# EAGLE library part WE-DS_214612043 (library Wurth_Elektronik_EMC_COMPONENTS_rev16c)
WE-DS D-SUB-Filter Connectors Bent 90° Characteristics Standard type filtered with 1000 pF High attenuation of more than 40 dB @ 180 MHz Choice of earthing metal sheet or high speed earthing clip Rated voltage: 100 VDC Rated current @ 20 ºC: 5 A Withstand voltage: 250 VRMS Insulation resistance: min. 1000 MΩ Operating temperature: –55 ºC to +125 ºC Applications Filtering of interfaces External connection to -printer -sensor -display <http://katalog.we-online.de/media/thumbs2/eisos/thb_AbsDSubFilter_abgewinkelt_pf2.jpg> Details see: http://katalog.we-online.de/en/pbs/Filter_abgewinkelt Created on 2015-05-04 2015 (C) Wurth Elektronik
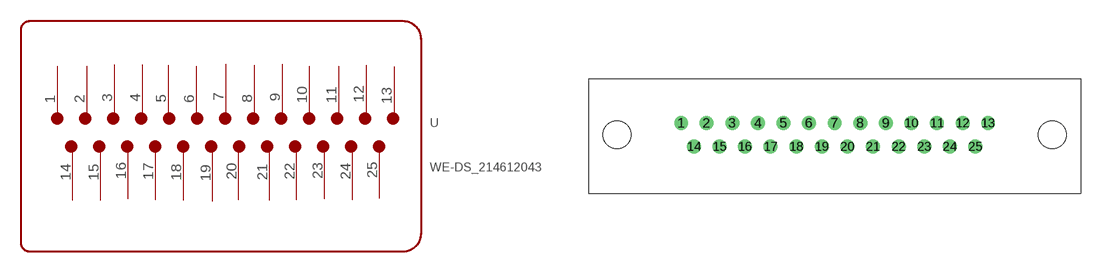
[diagram p204: symbol with the pads of WE-DS_2146120X3; footprint WE-DS_2146120X3]

Designator prefix -

## WE-DS_214612043  [WE-DS_2146120X3]
1  1
2  2
3  3
4  4
5  5
6  6
7  7
8  8
9  9
10  10
11  11
12  12
13  13
14  14
15  15
16  16
17  17
18  18
19  19
20  20
21  21
22  22
23  23
24  24
25  25

## Footprint WE-DS_2146120X3 (pad centres in mm)
drill 1: 1 -16.56,1.27; 2 -13.82,1.27; 3 -11.05,1.27; 4 -8.28,1.27; 5 -5.54,1.27; 6 -2.77,1.27; 7 0,1.27; 8 2.77,1.27; 9 5.54,1.27; 10 8.28,1.27; 11 11.05,1.27; 12 13.82,1.27; 13 16.56,1.27; 14 -15.19,-1.27; 15 -12.42,-1.27; 16 -9.68,-1.27; 17 -6.91,-1.27; 18 -4.14,-1.27; 19 -1.38,-1.27; 20 1.38,-1.27; 21 4.14,-1.27; 22 6.91,-1.27; 23 9.68,-1.27; 24 12.42,-1.27; 25 15.19,-1.27
hole 3 at -23.5,0
hole 3 at 23.5,0